# EAGLE library part TPA6130A2 (library uPy_AudioCodec_00)
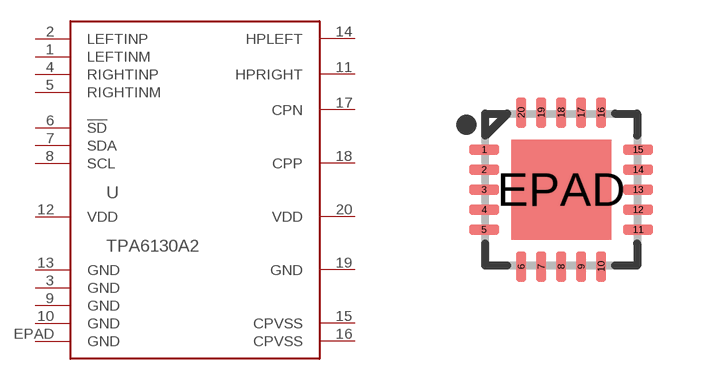
[diagram p2: symbol with the pads of QFN20-EP; footprint QFN20-EP]

Designator prefix U

## TPA6130A2  [QFN20-EP]
1  LEFTINM  in
2  LEFTINP  in
3  GND  pwr
4  RIGHTINP  in
5  RIGHTINM  in
6  !SD  in
7  SDA
8  SCL  in
9  GND  pwr
10  GND  pwr
11  HPRIGHT  out
12  VDD  pwr
13  GND  pwr
14  HPLEFT  out
15  CPVSS  pwr
16  CPVSS  pwr
17  CPN  pwr
18  CPP  pwr
19  GND  pwr
20  VDD  pwr
EPAD  GND  pwr

## Footprint QFN20-EP (pad centres in mm)
smd 0.75 x 0.25: 1 -1.925,1; 2 -1.925,0.5; 3 -1.925,0; 4 -1.925,-0.5; 5 -1.925,-1; 11 1.925,-1; 12 1.925,-0.5; 13 1.925,0; 14 1.925,0.5; 15 1.925,1
smd 0.25 x 0.75: 6 -1,-1.925; 7 -0.5,-1.925; 8 0,-1.925; 9 0.5,-1.925; 10 1,-1.925; 16 1,1.925; 17 0.5,1.925; 18 0,1.925; 19 -0.5,1.925; 20 -1,1.925
smd 2.5 x 2.5: EPAD 0,0